# Altium footprint library HR911130A.PcbLib: 1 footprints
Each footprint in its own frame and in the unit in brackets; x right, y up, seen from the top. Pads: shape width x height; smd on the part's side, far side on the other; paste and mask are expansions set on the pad; w line width, h text height; cw(c..) or ccw(c..) is an arc to the next point about the centre after c.
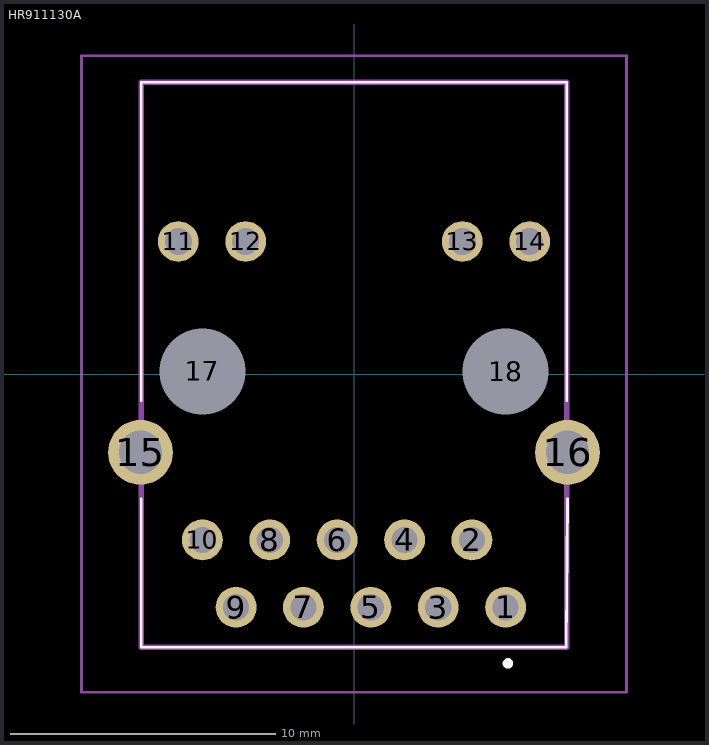
[diagram p0: the footprint, top view; thin cyan lines are the x and y axes]

## HR911130A [mm]
pads (18):
  round 1.54 hole 0.99: 1(5.715,-8.794) 2(4.445,-6.254) 3(3.175,-8.794) 4(1.905,-6.254) 5(0.635,-8.794) 6(-0.635,-6.254) 7(-1.905,-8.794) 8(-3.175,-6.254) 9(-4.445,-8.794) 10(-5.715,-6.254)
  round 1.53 hole 1.02: 11(-6.625,4.996) 12(-4.085,4.996) 13(4.085,4.996) 14(6.625,4.996)
  round 2.445 hole 1.63: 15(-8.05,-2.954) 16(8.05,-2.954)
  round 1.625 hole 3.25 unplated: 17(-5.715,0.096) 18(5.715,0.096)
Top Overlay:
  lines w0.1: -8.023,-4.704 -8.023,-10.304 8,-10.304 8.05,-4.704 ; -8.02,-1.004 -8.02,10.996 8.02,10.996 8.02,-1.004
  lines w0.2: 5.7,-10.904 ccw(c5.8,-10.904) 5.9,-10.904 ; 5.716,-10.904 cw(c5.807,-10.904) 5.899,-10.904 ; 5.9,-10.904 5.9,-10.904 ; 5.715,-10.904 5.715,-10.904
Mechanical 15:
  lines w0.2: -8.02,-10.304 8.02,-10.304 8.02,10.996 -8.02,10.996 -8.02,-10.304
Mechanical 20:
  lines w0.1: -10.273,-11.996 10.273,-11.996 10.273,11.996 -10.273,11.996 -10.273,-11.996